# Altium schematic symbol library Discrete_Transistors_JFET_GOST.SchLib: 2 symbols
Pins are listed as number, name and electrical type; pins without a type are passive.

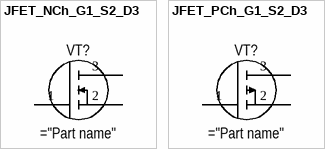
[diagram p0: symbols JFET_NCh_G1_S2_D3 to JFET_PCh_G1_S2_D3]

## JFET_NCh_G1_S2_D3
designator VT?
pins: 1 Gate, 2 Source, 3 Drain

## JFET_PCh_G1_S2_D3
designator VT?
pins: 1 Gate, 2 Source, 3 Drain